# Altium footprint library PcbLib1.PcbLib: 3 footprints
Each footprint in its own frame and in the unit in brackets; x right, y up, seen from the top. Pads: shape width x height; smd on the part's side, far side on the other; paste and mask are expansions set on the pad; w line width, h text height; cw(c..) or ccw(c..) is an arc to the next point about the centre after c.
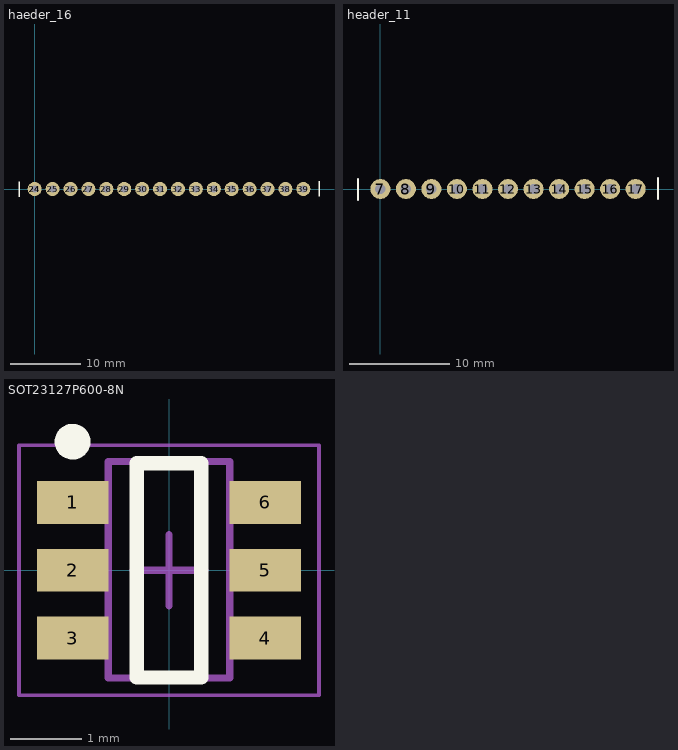
[diagram p0: the footprints below, top view; thin cyan lines are the x and y axes]

## haeder_16 [mm]
pads (17):
  round 2 hole 1.04: 24(0,0) 24(0,0) 25(2.54,0) 26(5.08,0) 27(7.62,0) 28(10.16,0) 29(12.7,0) 30(15.24,0) 31(17.78,0) 32(20.32,0) 33(22.86,0) 34(25.4,0) 35(27.94,0) 36(30.48,0) 37(33.02,0) 38(35.56,0) 39(38.1,0)
Top Overlay:
  lines w0.2: -2.225,-1.1 -2.225,1 ; 40.325,-1 40.325,1.1

## header_11 [mm]
pads (11):
  round 2 hole 1.04: 7(0,0) 8(2.54,0) 9(5.08,0) 10(7.62,0) 11(10.16,0) 12(12.7,0) 13(15.24,0) 14(17.78,0) 15(20.32,0) 16(22.86,0) 17(25.4,0)
Top Overlay:
  lines w0.2: -2.225,-1.1 -2.225,1 ; 27.625,-1 27.625,1.1

## SOT23127P600-8N [mm]
height 1.1
pads (6):
  rect 1x0.6 smd: 1(-1.35,0.95) 2(-1.35,0) 3(-1.35,-0.95) 4(1.35,-0.95) 5(1.35,0) 6(1.35,0.95)
Top Overlay:
  circle w0.25: c-1.35,1.8 r0.125
  lines w0.2: -0.45,-1.5 0.45,-1.5 0.45,1.5 -0.45,1.5 -0.45,-1.5
Mechanical 13:
  lines w0.1: -0.85,-1.51 0.85,-1.51 0.85,1.524 -0.85,1.524 -0.85,-1.51
Mechanical 15:
  lines w0.05: -2.1,-1.75 -2.1,1.75 2.1,1.75 2.1,-1.75 -2.1,-1.75
  lines w0.1: -0.5,0 0.5,0 ; 0,-0.5 0,0.5
3D body "SOT23127P600-8N.step": height 1.1, standoff 0, extent -1.475,-1.51 1.475,1.51